# Altium footprint library IC_74HC138PW-Q100,118.PcbLib: 1 footprints
Each footprint in its own frame and in the unit in brackets; x right, y up, seen from the top. Pads: shape width x height; smd on the part's side, far side on the other; paste and mask are expansions set on the pad; w line width, h text height; cw(c..) or ccw(c..) is an arc to the next point about the centre after c.
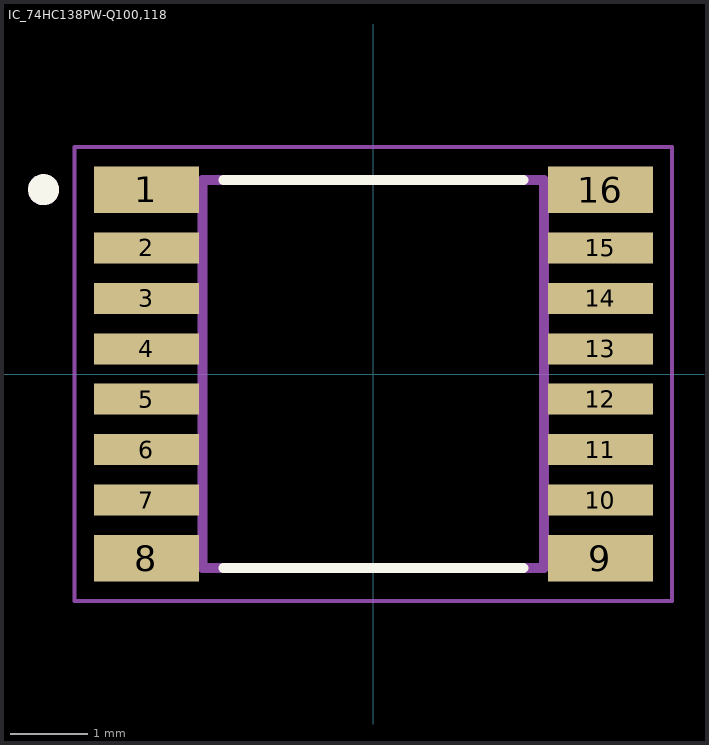
[diagram p0: the footprint, top view; thin cyan lines are the x and y axes]

## IC_74HC138PW-Q100,118 [mm]
pads (16):
  rect 1.35x0.6 smd paste-0.05: 1(-2.925,2.375) 8(-2.925,-2.375) 9(2.925,-2.375) 16(2.925,2.375)
  rect 1.35x0.4 smd paste-0.05: 2(-2.925,1.625) 3(-2.925,0.975) 4(-2.925,0.325) 5(-2.925,-0.325) 6(-2.925,-0.975) 7(-2.925,-1.625) 10(2.925,-1.625) 11(2.925,-0.975) 12(2.925,-0.325) 13(2.925,0.325) 14(2.925,0.975) 15(2.925,1.625)
Top Overlay:
  circle w0.2: c-4.25,2.375 r0.1
  lines w0.127: -1.935,-2.5 1.935,-2.5 ; -1.935,2.5 1.935,2.5
Mechanical 13:
  circle w0.2: c-4.25,2.375 r0.1
  lines w0.127: -2.2,-2.5 2.2,-2.5 2.2,2.5 -2.2,2.5 -2.2,-2.5
Mechanical 15:
  lines w0.05: -3.85,-2.925 3.85,-2.925 3.85,2.925 -3.85,2.925 -3.85,-2.925
3D body "step_temp.STEP": height 1.1, standoff 0, extent -3.2,-2.5 3.2,2.5